# Altium footprint library rest.PCBLIB: 42 footprints (part 2 of 3)
Each footprint in its own frame and in the unit in brackets; x right, y up, seen from the top. Pads: shape width x height; smd on the part's side, far side on the other; paste and mask are expansions set on the pad; w line width, h text height; cw(c..) or ccw(c..) is an arc to the next point about the centre after c.
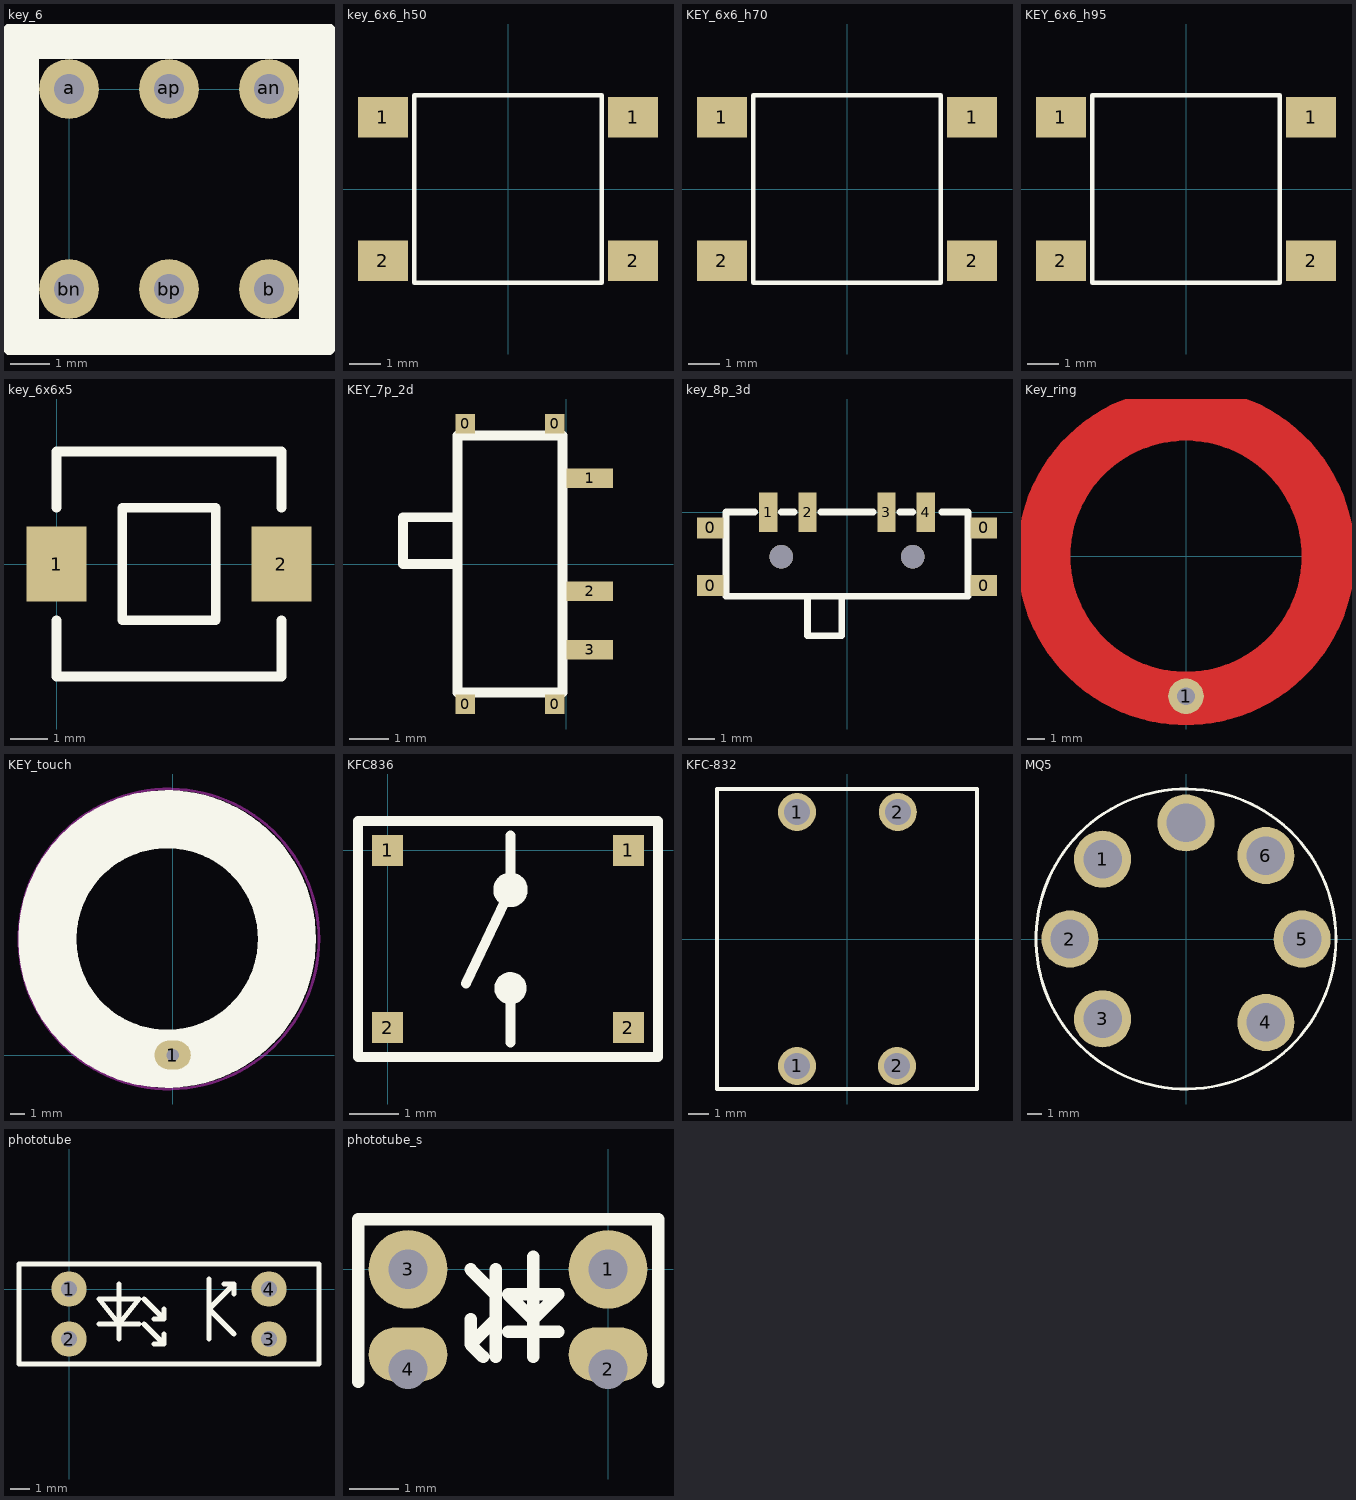
[diagram p1: the footprints below, top view; thin cyan lines are the x and y axes]

## key_4pin [mm]

## key_6 [mil]
pads (6):
  round 60 hole 30: a(0,0) an(200,0) ap(100,0) b(200,-200) bn(0,-200) bp(100,-200)
TopOverlay:
  lines w40: -50,-250 250,-250 250,50 0,50 -50,50 -50,-250

## key_6x6_h50 [mm]
pads (4):
  rect 1.6x1.3 smd: 1(-4,2.3) 1(4,2.3) 2(-4,-2.3) 2(4,-2.3)
TopOverlay:
  lines w0.152: -3,-3 -3,3 3,3 3,-3 -3,-3
3D body "User Library-PTS645SL50SMTR92-LFS.STEP": height 5, standoff 0, extent -4.5,-3 4.5,3

## KEY_6x6_h70 [mm]
pads (4):
  rect 1.6x1.3 smd: 1(-4,2.3) 1(4,2.3) 2(-4,-2.3) 2(4,-2.3)
TopOverlay:
  lines w0.152: -3,-3 3,-3 3,3 -3,3 -3,-3
3D body "User Library-PTS645SL70SMTR92-LFS.STEP": height 7, standoff 0, extent -4.5,-3 4.5,3

## KEY_6x6_h95 [mm]
pads (4):
  rect 1.6x1.3 smd: 1(-4,2.3) 1(4,2.3) 2(-4,-2.3) 2(4,-2.3)
TopOverlay:
  lines w0.152: -3,-3 3,-3 3,3 -3,3 -3,-3
3D body "User Library-PTS645SL95SMTR92-LFS.STEP": height 9.5, standoff 0, extent -4.5,-3 4.5,3

## key_6x6x5 [mm]
pads (2):
  rect 1.6x2 smd: 1(0,0) 2(6,0)
TopOverlay:
  lines w0.254: 0,-1.5 0,-3 6,-3 6,-1.5 ; 0,1.5 0,3 6,3 6,1.5 ; 1.75,-1.5 4.25,-1.5 4.25,1.5 1.75,1.5 1.75,-1.5
3D body "43426.stp": height 5, standoff 0, extent -0.3,-2.97 6.3,2.97

## KEY_7p_2d [mm]
pads (7):
  rect 0.5x0.5 smd: 0(-2.6,-3.6) 0(-2.6,3.6) 0(-0.3,-3.6) 0(-0.3,3.6)
  rect 1.2x0.5 smd: 1(0.6,2.2) 2(0.6,-0.7) 3(0.6,-2.2)
TopOverlay:
  lines w0.254: -2.8,0 -4.2,0 -4.2,1.2 -2.8,1.2 ; -2.8,-3.3 -2.8,3.3 -0.1,3.3 -0.1,-3.3 -2.8,-3.3

## key_8p_3d [mm]
pads (8):
  rect 1x0.8 smd: 0(-5.2,-2.8) 0(-5.2,-0.6) 0(5.2,-2.8) 0(5.2,-0.6)
  rect 0.7x1.5 smd: 1(-3,0) 2(-1.5,0) 3(1.5,0) 4(3,0)
via -2.5,-1.7 diameter 0.9 hole 0.9
via 2.5,-1.7 diameter 0.9 hole 0.9
TopOverlay:
  lines w0.254: -3.5,0 -4.6,0 -4.6,-3.2 4.6,-3.2 4.6,0 3.6,0 ; -2.5,0 -2,0 ; -1.5,-3.2 -1.5,-4.7 -0.2,-4.7 -0.2,-3.3 ; -1,0 1,0 ; 2,0 2.5,0

## Key_ring [mm]
pads (1):
  round 2 hole 1: 1(0,-7.874)
TopLayer:
  circle w3: c0,0 r8

## KEY_touch [mil]
pads (1):
  oval 100x80 hole 35: 1(0,0)
TopLayer keep-out:
  circle w7.87: c-10,320 r413.39
TopOverlay:
  circle w160: c-15,320 r330

## KFC836 [mm]
pads (4):
  rect 0.635x0.635 smd: 1(0,0) 1(4.9,0) 2(0,-3.6) 2(4.9,-3.6)
TopOverlay:
  circle w0.254: c2.5,-0.8 r0.224
  circle w0.254: c2.5,-2.8 r0.2
  lines w0.203: 1.6,-2.7 2.5,-0.8 2.5,0.3 ; 2.5,-3.9 2.5,-2.8 ; -0.6,-4.2 5.5,-4.2 5.5,0.6 -0.6,0.6 -0.6,-4.2

## KFC-832 [mm] "微动开关"
pads (4):
  round 1.9 hole 1.3: 1(-2.5,-6.35) 1(-2.5,6.35) 2(2.5,-6.35) 2(2.54,6.35)
TopOverlay:
  lines w0.203: -6.5,-7.5 -6.5,7.5 6.5,7.5 6.5,-7.5 -6.5,-7.5

## MQ5 [mm]
pads (7):
  round 4 hole 2.7: 1(-5.842,5.588) 2(-8.128,0) 3(-5.842,-5.588) 4(5.588,-5.842) 5(8.128,0) 6(5.588,5.842) ""(0,8.128)
TopOverlay:
  circle w0.2: c-0.002,0 r10.5

## PCBC [mm]

## phototube [mm]
pads (4):
  round 1.8 hole 0.8: 1(0,0) 2(0,-2.54) 3(10.16,-2.54) 4(10.16,0)
TopOverlay:
  lines w0.254: 1.524,-1.778 3.556,-1.778 ; 2.54,-2.54 2.54,0.254 ; 3.81,-1.778 4.826,-2.794 ; 3.81,-0.508 4.826,-1.524 ; 4.318,-2.794 4.826,-2.794 ; 4.318,-1.524 4.826,-1.524 ; 4.826,-2.286 4.826,-2.794 ; 4.826,-1.016 4.826,-1.524 ; 7.112,-2.54 7.112,0.508 ; 7.874,0.254 8.382,0.254 ; 8.382,-2.286 7.112,-1.016 8.382,0.254 ; 8.382,-0.254 8.382,0.254 ; -2.54,-3.81 12.7,-3.81 12.7,1.27 -2.54,1.27 -2.54,-3.81 ; 1.524,-0.508 2.54,-1.778 3.556,-0.508 1.524,-0.508

## phototube_s [mm]
pads (4):
  round 1.6 hole 0.8: 1(0,0) 3(-4.064,0)
  oval 1.6x1.1 hole 0.8 copper offset 0,0.3: 2(0,-2.032) 4(-4.064,-2.032)
TopOverlay:
  lines w0.254: -5.08,-2.286 -5.08,1.016 1.016,1.016 1.016,-2.286 ; -2.794,-1.016 -2.794,-1.524 ; -2.794,0 -2.286,-0.508 ; -2.54,-1.778 -2.794,-1.524 ; -2.286,-1.778 -2.286,0 ; -2.286,-1.016 -2.794,-1.524 ; -2.032,-1.27 -1.016,-1.27 ; -1.524,-1.778 -1.524,0.254 ; -2.032,-0.508 -1.524,-1.016 -1.016,-0.508 -2.032,-0.508